# Altium footprint library PcbLib_LDR sensor.PcbLib: 1 footprints
Each footprint in its own frame and in the unit in brackets; x right, y up, seen from the top. Pads: shape width x height; smd on the part's side, far side on the other; paste and mask are expansions set on the pad; w line width, h text height; cw(c..) or ccw(c..) is an arc to the next point about the centre after c.
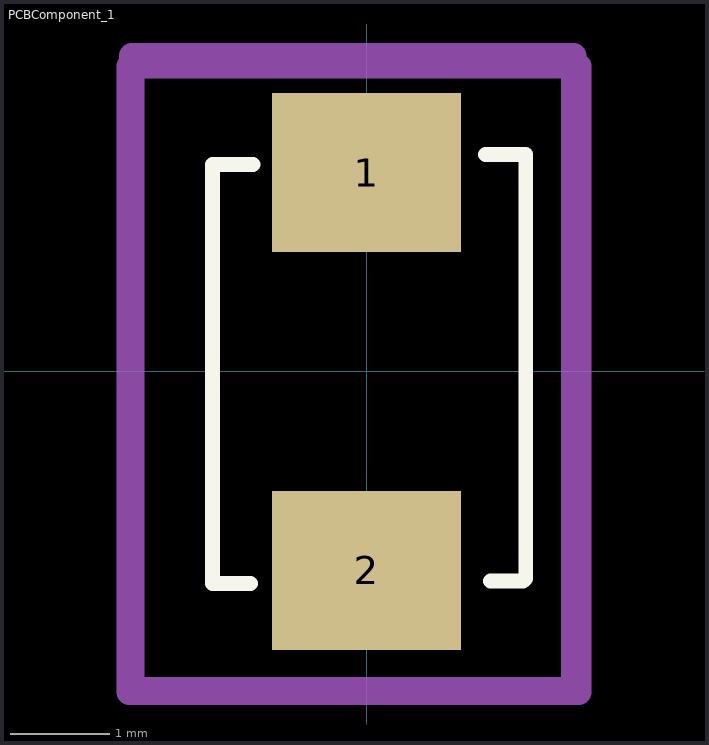
[diagram p0: the footprint, top view; thin cyan lines are the x and y axes]

## PCBComponent_1 [mm]
pads (2):
  rect 1.9x1.6 smd: 1(0,2) 2(0,-2)
Top Overlay:
  lines w0.15: -1.168,-2.134 -1.549,-2.134 -1.549,2.083 -1.143,2.083 ; 1.194,2.184 1.6,2.184 1.6,-2.083 1.575,-2.108 1.245,-2.108
Mechanical15:
  lines w0.254: -2.388,-3.226 2.134,-3.226 2.134,3.073 -2.388,3.073 -2.388,-3.226
Mechanical29:
  lines w0.254: -2.362,-3.2 2.083,-3.2 2.083,3.175 -2.362,3.175 -2.362,-3.2
3D body "RS1G (1).STEP": height 2.58, standoff 0.08, extent -1.382,-2.545 1.178,2.595